# Altium footprint library SMA LZ.PcbLib: 1 footprints
Each footprint in its own frame and in the unit in brackets; x right, y up, seen from the top. Pads: shape width x height; smd on the part's side, far side on the other; paste and mask are expansions set on the pad; w line width, h text height; cw(c..) or ccw(c..) is an arc to the next point about the centre after c.
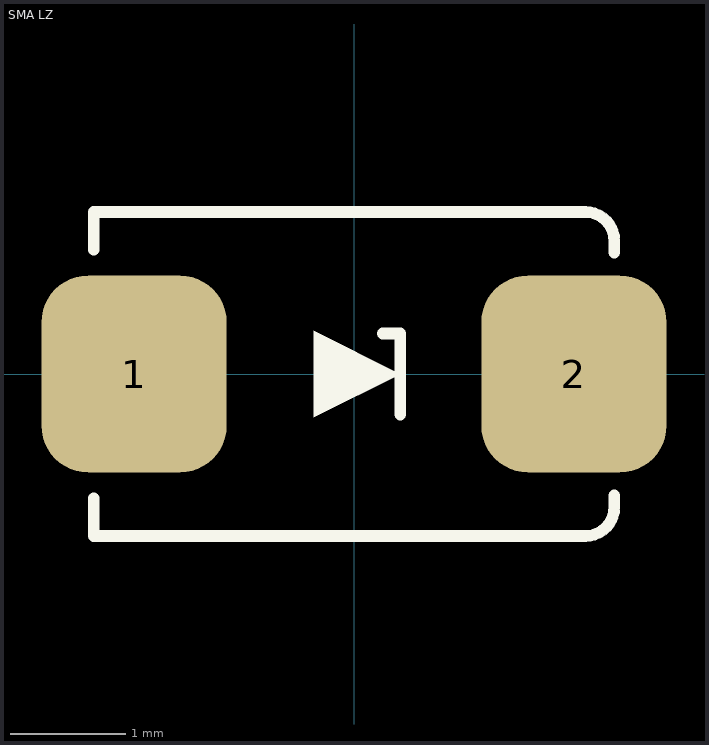
[diagram p0: the footprint, top view; thin cyan lines are the x and y axes]

## SMA LZ [mm] "Molded Diode, 2-Leads, Body 4.25x2.67mm, IPC High Density"
height 2.29
pads (2):
  rrect50% 1.6x1.7 smd: 1(-1.9,0) 2(1.9,0)
Top Overlay:
  region: -0.35,0.375 0.4,0 -0.35,-0.375
  lines w0.1: -2.25,-1.075 -2.25,-1.4 2,-1.4 ccw(c2,-1.15) 2.25,-1.15 2.25,-1.05 ; -2.25,1.075 -2.25,1.4 2,1.4 cw(c2,1.15) 2.25,1.15 ; 0.25,0.35 0.4,0.35 0.4,-0.35 ; 2.25,1.05 2.25,1.15 ; 2.25,1.15 ccw(c2.25,1.15) 2.25,1.15
3D body "DIOM4227X23L.step": height 2.29, standoff 0, extent -2.47,-1.395 2.47,1.395